# Altium schematic symbol library Board to Wire.SchLib: 4 symbols
Pins are listed as number, name and electrical type; pins without a type are passive.

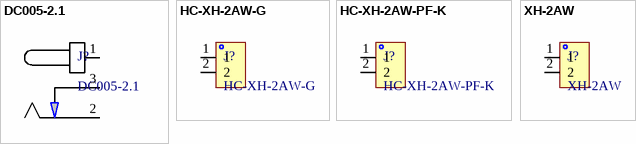
[diagram p0: symbols DC005-2.1 to XH-2AW]

## DC005-2.1
designator J?
优信电子售卖的DC母座，品牌未知 5.5-2.1; 制造商: (优信电子); 子类别: DC电源插座; 安装方式: 弯插; 封装: 插件; 类别: 板对线插座; 触点内径: 2.1; 触点外径: 6.3; 额定电流: 1A; 额定电压: 30V
footprint DC005-YXDZ (淘宝优信电子售卖的DC005插座封装 品牌未知)
pins: 1, 2, 3

## HC-XH-2AW-G
designator J?
制造商: HCTL(华灿天禄); 类别: 板对线插座; 子类别: 2.5mm接头; 封装: P=2.5mm; 插针结构: 1x2P; 安装方式: 弯插; 间距: 2.5mm; 排数: 1; 每排PIN数: 2
footprint HCTL-XH-2AW (HCTL(华灿天禄) 2.5mm版对线插座封装)
pins: 1, 2

## HC-XH-2AW-PF-K
designator J?
制造商: HCTL(华灿天禄); 类别: 板对线插座; 子类别: 2.5mm接头; 封装: P=2.5mm; 插针结构: 1x2P; 安装方式: 弯插; 间距: 2.5mm; 排数: 1; 每排PIN数: 2
footprint HCTL-XH-2AW (HCTL(华灿天禄) 2.5mm版对线插座封装)
pins: 1, 2

## XH-2AW
designator J?
制造商: HCTL(华灿天禄); 类别: 板对线插座; 子类别: 2.5mm接头; 封装: P=2.5mm; 插针结构: 1x2P; 安装方式: 弯插; 间距: 2.5mm; 排数: 1; 每排PIN数: 2
footprint HCTL-XH-2AW (HCTL(华灿天禄) 2.5mm版对线插座封装)
pins: 1, 2